# Altium footprint library Potenciometers.PcbLib: 6 footprints
Each footprint in its own frame and in the unit in brackets; x right, y up, seen from the top. Pads: shape width x height; smd on the part's side, far side on the other; paste and mask are expansions set on the pad; w line width, h text height; cw(c..) or ccw(c..) is an arc to the next point about the centre after c.
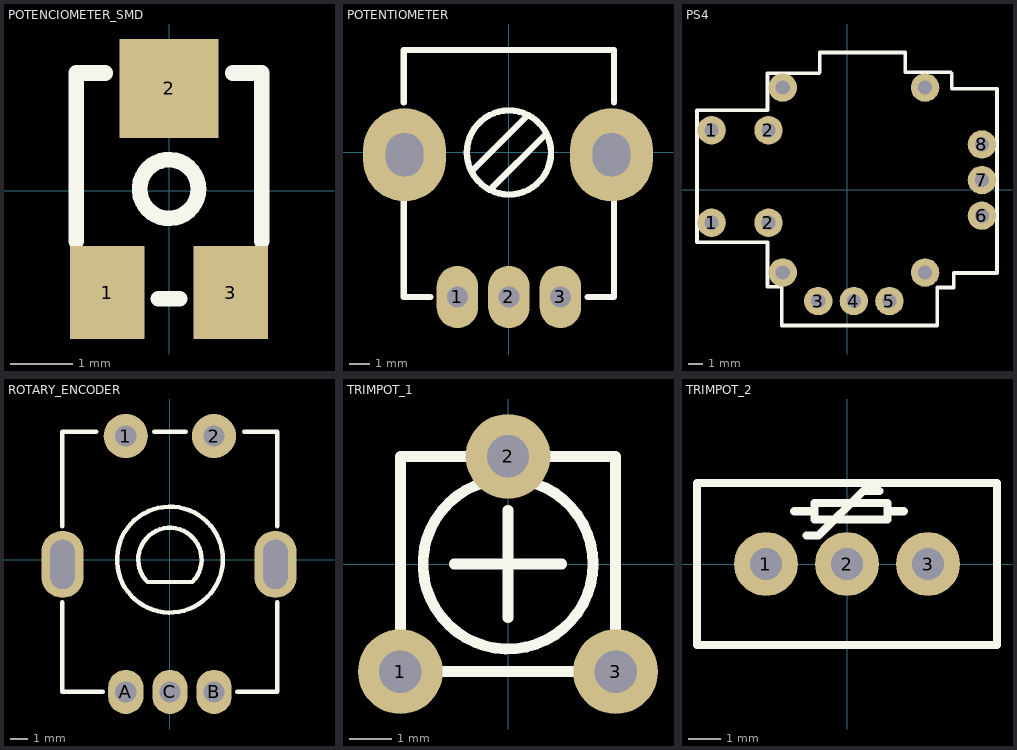
[diagram p0: the footprints below, top view; thin cyan lines are the x and y axes]

## POTENCIOMETER_SMD [mm]
pads (3):
  rect 1.2x1.5 smd: 1(-1,-1.65) 3(1,-1.65)
  rect 1.6x1.6 smd: 2(0,1.65)
Top Overlay:
  circle w0.254: c0,0.025 r0.475
  lines w0.254: -1.5,-0.819 -1.5,0.1 -1.5,1.9 ; -0.169,-1.75 0.169,-1.75 ; 1.5,-0.819 1.5,1.9 ; 1.5,0.1 1.5,1.9 ; -1.5,1.9 -1.031,1.9 ; -1.5,1.9 -1.031,1.9 ; -1.5,1.9 -1.031,1.9 ; 1.031,1.9 1.5,1.9 ; 1.031,1.9 1.5,1.9 ; 1.031,1.9 1.5,1.9
Mechanical 15:
  circle w0.2: c-1.2,-2.1 r0.1
3D body "POTENTIOMETER_SMD.SLDPRT": height 1.62, standoff 0, extent -1.551,-1.883 1.549,1.917

## POTENTIOMETER [mm]
pads (5):
  oval 2x3 hole 1: 1(-2.489,-6.985) 2(0,-6.985) 3(2.489,-6.985)
  oval 4x4.5 hole 1.803 slot 2.108 at 90 deg: ""(-5.045,-0.112) ""(4.955,-0.112)
Top Overlay:
  circle w0.305: c0,0 r2.032
  lines w0.305: -5.08,-2.413 -5.08,-6.985 -3.81,-6.985 ; -5.08,2.413 -5.08,4.953 5.08,4.953 5.08,2.413 ; -1.778,-0.889 0.889,1.778 ; -0.889,-1.778 1.778,0.889 ; 3.81,-6.985 5.08,-6.985 5.08,-2.413
3D body "P0915N-QC20BR5K--3DModel-STEP-56544.STEP": height 31.05, standoff -3.95, extent -6.124,-7.266 5.974,5.234

## PS4 [mm]
pads (14):
  round 2 hole 1: 1(-9.517,-2.308) 1(-9.517,4.192) 2(-5.517,-2.308) 2(-5.517,4.192) 3(-2.017,-7.808) 4(0.483,-7.808) 5(2.983,-7.808) 6(9.483,-1.808) 7(9.483,0.692) 8(9.483,3.192) ""(-4.517,-5.808) ""(-4.517,7.192) ""(5.483,-5.808) ""(5.483,7.192)
Top Overlay:
  lines w0.254: -1.968,8.191 -5.588,8.191 -5.588,5.588 -10.541,5.588 -10.541,-3.683 -5.588,-3.683 -5.588,-6.794 -4.572,-6.794 -4.572,-9.525 6.35,-9.525 6.35,-6.858 7.493,-6.858 7.493,-5.842 10.541,-5.842 10.541,7.112 7.366,7.112 7.366,8.191 ; -1.905,8.255 -1.905,9.652 4.095,9.652 4.095,8.255 7.302,8.255
3D body "PS4.x_t": height 19.1, standoff -2.4, extent -10.553,-9.642 10.61,9.688

## ROTARY_ENCODER [mm]
pads (7):
  round 2.5 hole 1.2: 1(-2.5,7) 2(2.5,7)
  oval 2x2.5 hole 1.2: A(-2.5,-7.5) B(2.5,-7.5) C(0,-7.5)
  oval 2.4x3.8 hole 1.4 slot 2.8 at 90 deg: ""(-6.084,-0.272) ""(5.981,-0.272)
Top Overlay:
  circle w0.254: c0,0 r3
  lines w0.254: -6.096,-2.404 -6.096,-7.493 -3.798,-7.493 ; -6.096,1.896 -6.096,7.239 -4.179,7.239 ; -0.889,7.257 0.889,7.257 ; 3.822,-7.493 6.096,-7.493 6.096,-2.404 ; 4.203,7.239 6.096,7.239 6.096,1.896 ; -1.27,-1.27 cw(c0,0) 1.27,-1.27 -1.27,-1.27
3D body "ROTARY_ENCODER.SLDPRT": height 21.4, standoff -3.7, extent -6.15,-7.627 6.15,7.373

## TRIMPOT_1 [mm]
pads (3):
  round 2 hole 1: 1(-2.54,-2.54) 2(0,2.54) 3(2.54,-2.54)
Top Overlay:
  circle w0.254: c0,0 r2.007
  lines w0.254: -1.27,0 0,0 ; 0,-1.27 0,0 ; 0,1.27 0,0 ; 1.27,0 0,0 ; -2.54,-2.54 -2.54,2.54 2.54,2.54 2.54,-2.54 -2.54,-2.54
3D body "TRIMPOT.step": height 9.35, standoff -1.7, extent -3.291,-4.115 3.189,3.085

## TRIMPOT_2 [mm]
pads (3):
  round 2 hole 1: 1(-2.54,0) 2(0,0) 3(2.54,0)
Top Overlay:
  lines w0.254: -1.651,1.651 -1.016,1.651 ; -1.27,0.889 -0.889,0.889 0.508,2.286 1.016,2.286 ; 1.27,1.651 1.778,1.651 ; -4.699,-2.54 4.699,-2.54 4.699,2.54 -4.699,2.54 -4.699,-2.54 ; -1.016,1.397 -1.016,1.905 1.27,1.905 1.27,1.397 -1.016,1.397
3D body "User Library-Potenciometro Vertical.step": height 12.16, standoff -5.34, extent -4.587,-2.4 4.613,2.4